# EAGLE library part PIC24FJ64GA104 (library ANIMAlib)
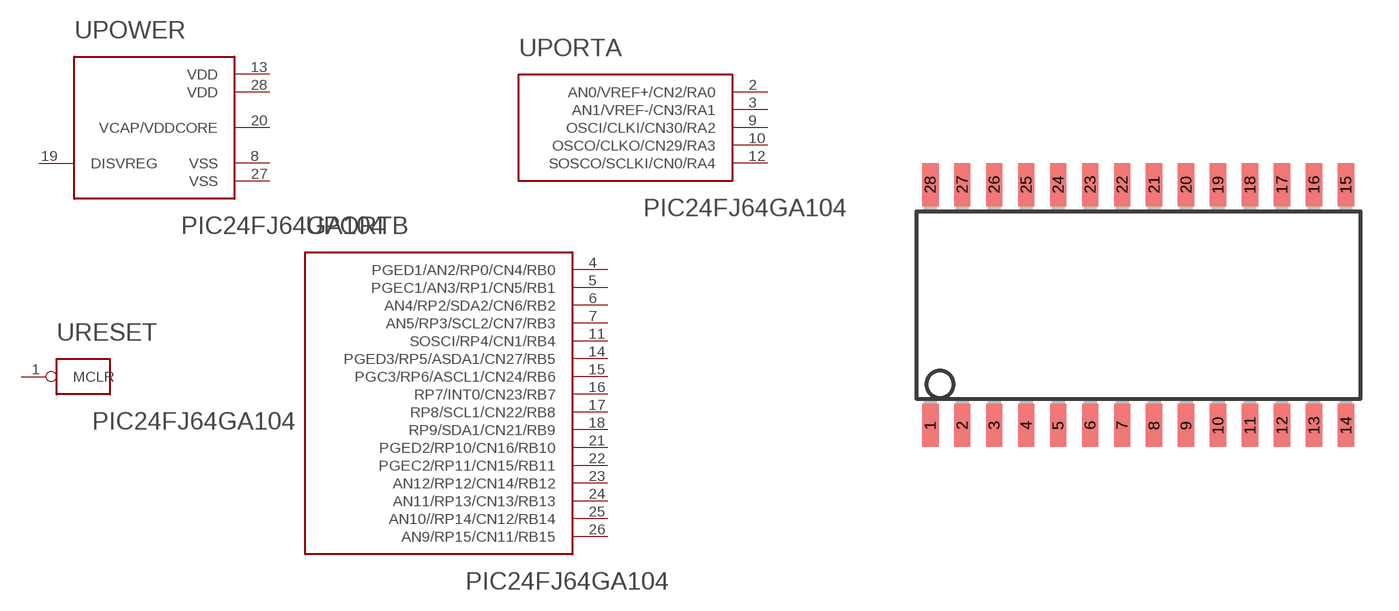
[diagram p28: symbol with the pads of SO28W; footprint SO28W]

Designator prefix U; gates POWER=PIC24FJ64GA-POWER PORTA=PIC24FJ64GA-PORTA PORTB=PIC24FJ64GA-PORTB RESET=PIC24FJ64GA-RESET

## PIC24FJ64GA104MICRO  [SO28W]
1  RESET:MCLR
2  PORTA:AN0/VREF+/CN2/RA0
3  PORTA:AN1/VREF-/CN3/RA1
4  PORTB:PGED1/AN2/RP0/CN4/RB0
5  PORTB:PGEC1/AN3/RP1/CN5/RB1
6  PORTB:AN4/RP2/SDA2/CN6/RB2
7  PORTB:AN5/RP3/SCL2/CN7/RB3
8  POWER:VSS
9  PORTA:OSCI/CLKI/CN30/RA2
10  PORTA:OSCO/CLKO/CN29/RA3
11  PORTB:SOSCI/RP4/CN1/RB4
12  PORTA:SOSCO/SCLKI/CN0/RA4
13  POWER:VDD
14  PORTB:PGED3/RP5/ASDA1/CN27/RB5
15  PORTB:PGC3/RP6/ASCL1/CN24/RB6
16  PORTB:RP7/INT0/CN23/RB7
17  PORTB:RP8/SCL1/CN22/RB8
18  PORTB:RP9/SDA1/CN21/RB9
19  POWER:DISVREG
20  POWER:VCAP/VDDCORE
21  PORTB:PGED2/RP10/CN16/RB10
22  PORTB:PGEC2/RP11/CN15/RB11
23  PORTB:AN12/RP12/CN14/RB12
24  PORTB:AN11/RP13/CN13/RB13
25  PORTB:AN10//RP14/CN12/RB14
26  PORTB:AN9/RP15/CN11/RB15
27  POWER:VSS
28  POWER:VDD

## Footprint SO28W (pad centres in mm)
28-Lead Plastic Small Outline (SO) Wide, 300 mil Body (SOIC) Source: http://ww1.microchip.com/downloads/en/devicedoc/39632c.pdf
smd 0.65 x 1.7: 1 -7.62,-4.78; 2 -6.35,-4.78; 3 -5.08,-4.78; 4 -3.81,-4.78; 5 -2.54,-4.78; 6 -1.27,-4.78; 7 0,-4.78; 8 1.27,-4.78; 9 2.54,-4.78; 10 3.81,-4.78; 11 5.08,-4.78; 12 6.35,-4.78; 13 7.62,-4.78; 14 8.89,-4.78; 15 8.89,4.78; 16 7.62,4.78; 17 6.35,4.78; 18 5.08,4.78; 19 3.81,4.78; 20 2.54,4.78; 21 1.27,4.78; 22 0,4.78; 23 -1.27,4.78; 24 -2.54,4.78; 25 -3.81,4.78; 26 -5.08,4.78; 27 -6.35,4.78; 28 -7.62,4.78